# Altium footprint library 4pin_molex_ultra.PcbLib: 1 footprints
Each footprint in its own frame and in the unit in brackets; x right, y up, seen from the top. Pads: shape width x height; smd on the part's side, far side on the other; paste and mask are expansions set on the pad; w line width, h text height; cw(c..) or ccw(c..) is an arc to the next point about the centre after c.
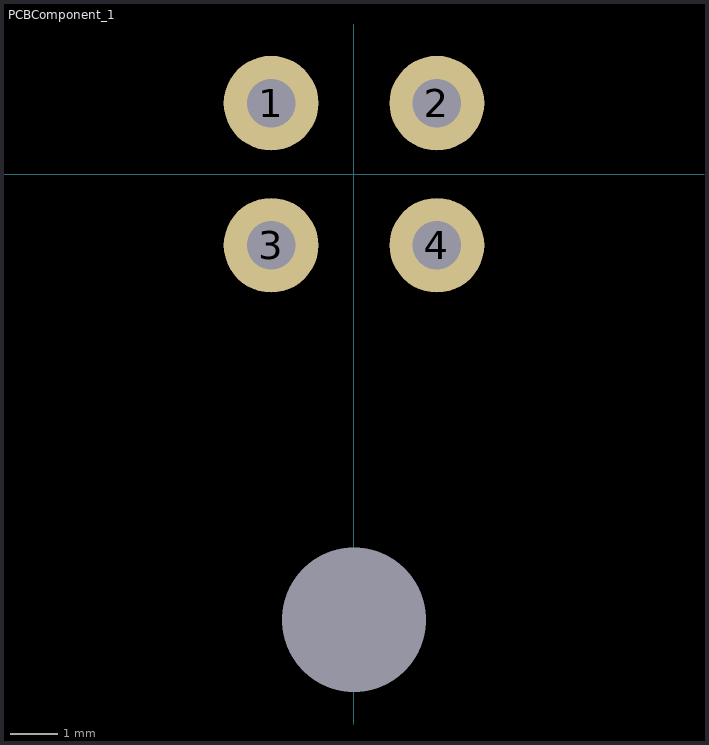
[diagram p0: the footprint, top view; thin cyan lines are the x and y axes]

## PCBComponent_1 [mm]
pads (5):
  round 2 hole 1.02: 1(-1.75,1.5) 2(1.75,1.5) 3(-1.75,-1.5) 4(1.75,-1.5)
  round 2 hole 3.05: ""(0,-9.41)
3D body "1723161104.stp": height 13.28, standoff -3.47, extent -4.5,-16.944 4.5,1.734